# Altium schematic symbol library Resistors.SchLib: 29 symbols
Pins are listed as number, name and electrical type; pins without a type are passive.

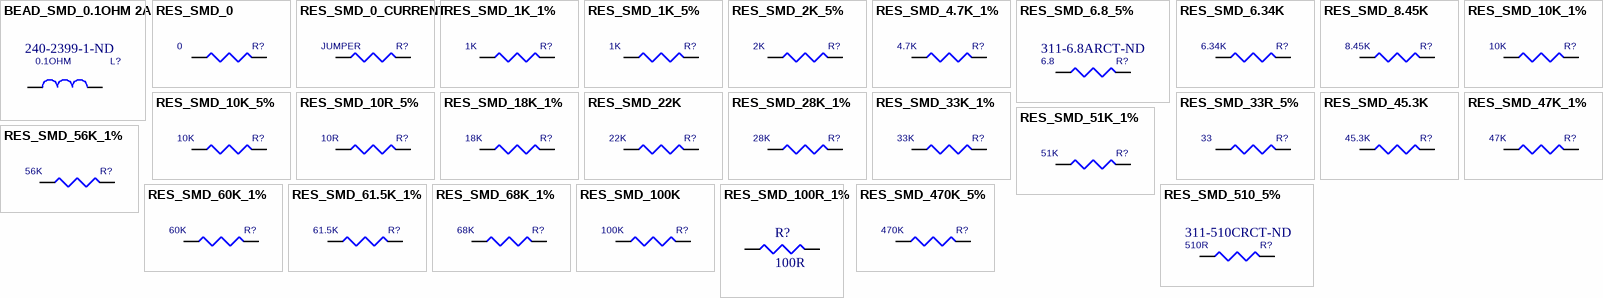
[diagram p0: symbols BEAD_SMD_0.1OHM 2A to RES_SMD_510_5%]

## BEAD_SMD_0.1OHM 2A
designator L?, comment 0.1OHM  Supplier Part Number 1: 240-2399-1-ND
BEAD 0.1 OHM 0805 2A; Supplier 1: Digi-Key
footprint RESC2013X06M (Chip Resistor, 2-Leads, Body 2,03x1,27mm, IPC Low Density)
pins: 1, 2

## RES_SMD_0
designator R?, comment 0
RES 0.0 OHM 1/8W JUMP 0805 SMD; Supplier 1: Digi-Key; Supplier Part Number 1: P0.0ATR-ND
footprint RESC2013X06M (Chip Resistor, 2-Leads, Body 2,03x1,27mm, IPC Low Density)
pins: 1, 2

## RES_SMD_0_CURRENT
designator R?, comment JUMPER
RES 0.0 OHM 1/8W JUMP 0805 SMD; Supplier 1: Digi-Key; Supplier Part Number 1: 732-5315-ND
footprint RESC2013X06M_CMEASURE (Chip Resistor, 2-Leads, Body 2,03x1,27mm, IPC Low Density)
pins: 1, 2

## RES_SMD_1K_1%
designator R?, comment 1K
RES 1K OHM 1/8W 1% 0805 SMD; Supplier 1: Digi-Key; Supplier Part Number 1: 311-1.00KCRCT-ND
footprint RESC2013X06M (Chip Resistor, 2-Leads, Body 2,03x1,27mm, IPC Low Density)
pins: 1, 2

## RES_SMD_1K_5%
designator R?, comment 1K
RES - 1K OHM, 5%, 1/8W, 0805 SMD; Supplier 1: Digi-Key; Supplier Part Number 1: P1.0KADKR-ND
footprint RESC2013X06M (Chip Resistor, 2-Leads, Body 2,03x1,27mm, IPC Low Density)
pins: 1, 2

## RES_SMD_2K_5%
designator R?, comment 2K
RES 2K OHM 1/8W 5% 0805; Supplier 1: Digi-Key; Supplier Part Number 1: RMCF0805JT2K00TR-ND
footprint RESC2013X06M (Chip Resistor, 2-Leads, Body 2,03x1,27mm, IPC Low Density)
pins: 1, 2

## RES_SMD_4.7K_1%
designator R?, comment 4.7K
RES 4.7K OHM 1/8W 1% 0805 SMD; Supplier 1: Digi-Key; Supplier Part Number 1: RMCF0805FT4K70CT-ND
footprint RESC2013X06M (Chip Resistor, 2-Leads, Body 2,03x1,27mm, IPC Low Density)
pins: 1, 2

## RES_SMD_6.8_5%
designator R?, comment 6.8  Supplier Part Number 1: 311-6.8ARCT-ND
RES 6.8 OHM 1/8W 0805 SMD; Supplier 1: Digi-Key
footprint RESC2013X06M (Chip Resistor, 2-Leads, Body 2,03x1,27mm, IPC Low Density)
pins: 1, 2

## RES_SMD_6.34K
designator R?, comment 6.34K
RES - 6.34K OHM, 1%, 1/8W, 0805 SMD; Supplier 1: Digi-Key; Supplier Part Number 1: P6.34KDACT-ND
footprint RESC2013X06M (Chip Resistor, 2-Leads, Body 2,03x1,27mm, IPC Low Density)
pins: 1, 2

## RES_SMD_8.45K
designator R?, comment 8.45K
RES - 8.45K OHM, 1%, 1/8W, 0805 SMD; Supplier 1: Digi-Key; Supplier Part Number 1: P8.45KCDKR-ND
footprint RESC2013X06M (Chip Resistor, 2-Leads, Body 2,03x1,27mm, IPC Low Density)
pins: 1, 2

## RES_SMD_10K_1%
designator R?, comment 10K
RES 10K OHM 1/8W 1% 0805 SMD; Supplier 1: Digi-Key; Supplier Part Number 1: 311-10.0KCRTR-ND
footprint RESC2013X06M (Chip Resistor, 2-Leads, Body 2,03x1,27mm, IPC Low Density)
pins: 1, 2

## RES_SMD_10K_5%
designator R?, comment 10K
RES 10K OHM 1/8W 5% 0805 SMD; Supplier 1: Digi-Key; Supplier Part Number 1: 311-10KARCT-ND
footprint RESC2013X06M (Chip Resistor, 2-Leads, Body 2,03x1,27mm, IPC Low Density)
pins: 1, 2

## RES_SMD_10R_5%
designator R?, comment 10R
RES 10 OHM 1/8W 1% 0805 SMD; Supplier 1: Digi-Key; Supplier Part Number 1: P10.0CCT-ND
footprint RESC2013X06M (Chip Resistor, 2-Leads, Body 2,03x1,27mm, IPC Low Density)
pins: 1, 2

## RES_SMD_18K_1%
designator R?, comment 18K
RES 18K OHM 1/8W 1% 0805 SMD; Supplier 1: Digi-Key; Supplier Part Number 1: P18.0KCCT-ND
footprint RESC2013X06M (Chip Resistor, 2-Leads, Body 2,03x1,27mm, IPC Low Density)
pins: 1, 2

## RES_SMD_22K
designator R?, comment 22K
RES 22K OHM 1/8W 1% 0805 SMD; Supplier 1: Digi-Key; Supplier Part Number 1: 311-22.0KCRCT-ND
footprint RESC2013X06M (Chip Resistor, 2-Leads, Body 2,03x1,27mm, IPC Low Density)
pins: 1, 2

## RES_SMD_28K_1%
designator R?, comment 28K
RES 28K OHM 1/8W 1% 0805 SMD; Supplier 1: Digi-Key; Supplier Part Number 1: P28.0KCCT-ND
footprint RESC2013X06M (Chip Resistor, 2-Leads, Body 2,03x1,27mm, IPC Low Density)
pins: 1, 2

## RES_SMD_33K_1%
designator R?, comment 33K
RES 33K OHM 1/8W 1% 0805 SMD; Supplier 1: Digi-Key; Supplier Part Number 1: P33.0KCCT-ND
footprint RESC2013X06M (Chip Resistor, 2-Leads, Body 2,03x1,27mm, IPC Low Density)
pins: 1, 2

## RES_SMD_33R_5%
designator R?, comment 33
RES - 33 OHM, 5%, 1/8W, 0805 SMD; Supplier 1: Digi-Key; Supplier Part Number 1: 311-33ARCT-ND
footprint RESC2013X06M (Chip Resistor, 2-Leads, Body 2,03x1,27mm, IPC Low Density)
pins: 1, 2

## RES_SMD_45.3K
designator R?, comment 45.3K
RES 45.3K OHM 1/8W 1% 0805 SMD; Supplier 1: Digi-Key; Supplier Part Number 1: P45.3KCCT-ND
footprint RESC2013X06M (Chip Resistor, 2-Leads, Body 2,03x1,27mm, IPC Low Density)
pins: 1, 2

## RES_SMD_47K_1%
designator R?, comment 47K
RES 47K OHM 1/8W 1% 0805; Supplier 1: Digi-Key; Supplier Part Number 1: 1276-5377-2-ND
footprint RESC2013X06M (Chip Resistor, 2-Leads, Body 2,03x1,27mm, IPC Low Density)
pins: 1, 2

## RES_SMD_51K_1%
designator R?, comment 51K
RES 51K OHM 1/8W 1% 0805 SMD; Supplier 1: Digi-Key; Supplier Part Number 1: P51.0KCCT-ND
footprint RESC2013X06M (Chip Resistor, 2-Leads, Body 2,03x1,27mm, IPC Low Density)
pins: 1, 2

## RES_SMD_56K_1%
designator R?, comment 56K
RES 56K OHM 1/8W 1% 0805 SMD; Supplier 1: Digi-Key; Supplier Part Number 1: P56.0KCTR-ND
footprint RESC2013X06M (Chip Resistor, 2-Leads, Body 2,03x1,27mm, IPC Low Density)
pins: 1, 2

## RES_SMD_60K_1%
designator R?, comment 60K
RES 60.4K OHM 1/8W 1% 0805 SMD; Supplier 1: Digi-Key; Supplier Part Number 1: P60.4KCDKR-ND
footprint RESC2013X06M (Chip Resistor, 2-Leads, Body 2,03x1,27mm, IPC Low Density)
pins: 1, 2

## RES_SMD_61.5K_1%
designator R?, comment 61.5K
RES 61.5K OHM 1/8W 1% 0805 SMD; Supplier 1: Digi-Key; Supplier Part Number 1: RHM61.5KAHTR-ND
footprint RESC2013X06M (Chip Resistor, 2-Leads, Body 2,03x1,27mm, IPC Low Density)
pins: 1, 2

## RES_SMD_68K_1%
designator R?, comment 68K
RES - 68K OHM, 1%, 1/8W, 0805 SMD; Supplier 1: Digi-Key; Supplier Part Number 1: 311-68.0KCRCT-ND
footprint RESC2013X06M (Chip Resistor, 2-Leads, Body 2,03x1,27mm, IPC Low Density)
pins: 1, 2

## RES_SMD_100K
designator R?, comment 100K
RES - 100K OHM, 5%, 1/8W, 0805 SMD; Supplier 1: Digi-Key; Supplier Part Number 1: P100KATR-ND
footprint RESC2013X06M (Chip Resistor, 2-Leads, Body 2,03x1,27mm, IPC Low Density)
pins: 1, 2

## RES_SMD_100R_1%
designator R?, comment 100R
RES - 100 OHM, 1%, 1/8W, 0805 SMD; Supplier 1: Digi-Key; Supplier Part Number 1: 311-100CRTR-ND
footprint RESC2013X06M (Chip Resistor, 2-Leads, Body 2,03x1,27mm, IPC Low Density)
pins: 1, 2

## RES_SMD_470K_5%
designator R?, comment 470K
RES 470K OHM 1/8W 5% 0805 SMD; Supplier 1: Digi-Key; Supplier Part Number 1: P470KATR-ND
footprint RESC2013X06M (Chip Resistor, 2-Leads, Body 2,03x1,27mm, IPC Low Density)
pins: 1, 2

## RES_SMD_510_5%
designator R?, comment 510R  Supplier Part Number 1: 311-510CRCT-ND
RES - 510 OHM, 5%, 1/8W, 0805 SMD; Supplier 1: Digi-Key
footprint RESC2013X06M (Chip Resistor, 2-Leads, Body 2,03x1,27mm, IPC Low Density)
pins: 1, 2